# Altium integrated library TIP142.IntLib: 1 symbol
Pins are listed as number, name and electrical type; pins without a type are passive.

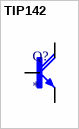
[diagram p0: symbol TIP142]

## TIP142
designator Q?
Bipolar (BJT) Transistor NPN - Darlington 100 V 10 A 125 W Through Hole TO-247-3; MF: onsemi; MP: TIP142; SnapEDA_Link: https://www.snapeda.com/parts/TIP142/Onsemi/view-part/?ref=snap; Package: SOT-93-3 ON Semiconductor; Value: *; Check_prices: https://www.snapeda.com/parts/TIP142/Onsemi/view-part/?ref=eda
footprint SOT93
pins: B, C, E